# EAGLE library part H0009NL (library DSDEagleLibrary)
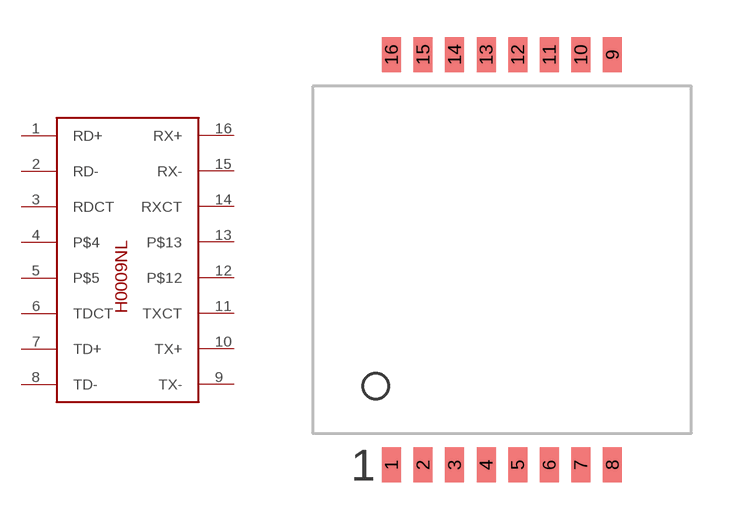
[diagram p21: symbol with the pads of H0009NL; footprint H0009NL]

Designator prefix -

## H0009NL  [H0009NL]
1  RD+
2  RD-
3  RDCT
4  P$4
5  P$5
6  TDCT
7  TD+
8  TD-
9  TX-
10  TX+
11  TXCT
12  P$12
13  P$13
14  RXCT
15  RX-
16  RX+

## Footprint H0009NL (pad centres in mm)
smd 0.762 x 1.397: 1 -4.445,-8.255; 2 -3.175,-8.255; 3 -1.905,-8.255; 4 -0.635,-8.255; 5 0.635,-8.255; 6 1.905,-8.255; 7 3.175,-8.255; 8 4.445,-8.255; 9 4.445,8.255; 10 3.175,8.255; 11 1.905,8.255; 12 0.635,8.255; 13 -0.635,8.255; 14 -1.905,8.255; 15 -3.175,8.255; 16 -4.445,8.255